# EAGLE library part 88E3015A2NNP1C000 (library circuit_tree)
IC
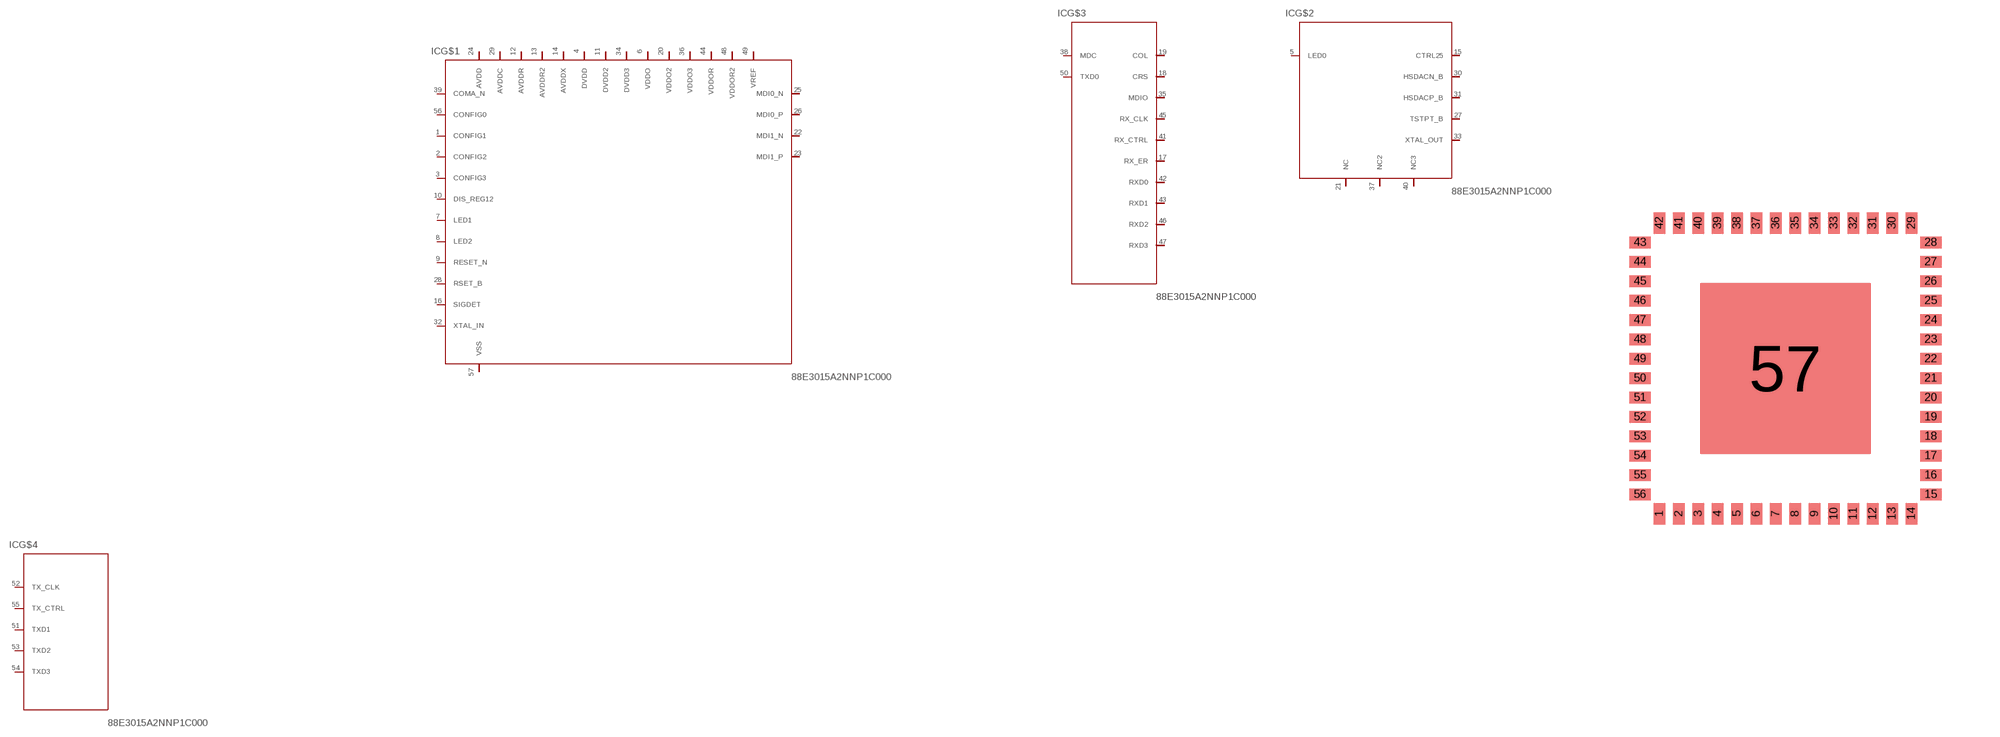
[diagram p1: symbol with the pads of 88E3015A2NNP1C000; footprint 88E3015A2NNP1C000]

Designator prefix IC; gates G$1=88E3015A2NNP1C000 G$2=88E3015A2NNP1C0002 G$3=88E3015A2NNP1C0003 G$4=88E3015A2NNP1C0004

## 88E3015A2NNP1C000  [88E3015A2NNP1C000]
1  G$1:CONFIG1  pas
2  G$1:CONFIG2  pas
3  G$1:CONFIG3  pas
4  G$1:DVDD  pas
5  G$2:LED0  pas
6  G$1:VDDO  pas
7  G$1:LED1  pas
8  G$1:LED2  pas
9  G$1:RESET_N  pas
10  G$1:DIS_REG12  pas
11  G$1:DVDD2  pas
12  G$1:AVDDR  pas
13  G$1:AVDDR2  pas
14  G$1:AVDDX  pas
15  G$2:CTRL25  pas
16  G$1:SIGDET  pas
17  G$3:RX_ER  pas
18  G$3:CRS  pas
19  G$3:COL  pas
20  G$1:VDDO2  pas
21  G$2:NC  pas
22  G$1:MDI1_N  pas
23  G$1:MDI1_P  pas
24  G$1:AVDD  pas
25  G$1:MDI0_N  pas
26  G$1:MDI0_P  pas
27  G$2:TSTPT_B  pas
28  G$1:RSET_B  pas
29  G$1:AVDDC  pas
30  G$2:HSDACN_B  pas
31  G$2:HSDACP_B  pas
32  G$1:XTAL_IN  pas
33  G$2:XTAL_OUT  pas
34  G$1:DVDD3  pas
35  G$3:MDIO  pas
36  G$1:VDDO3  pas
37  G$2:NC2  pas
38  G$3:MDC  pas
39  G$1:COMA_N  pas
40  G$2:NC3  pas
41  G$3:RX_CTRL  pas
42  G$3:RXD0  pas
43  G$3:RXD1  pas
44  G$1:VDDOR  pas
45  G$3:RX_CLK  pas
46  G$3:RXD2  pas
47  G$3:RXD3  pas
48  G$1:VDDOR2  pas
49  G$1:VREF  pas
50  G$3:TXD0  pas
51  G$4:TXD1  pas
52  G$4:TX_CLK  pas
53  G$4:TXD2  pas
54  G$4:TXD3  pas
55  G$4:TX_CTRL  pas
56  G$1:CONFIG0  pas
57  G$1:VSS  pas

## Footprint 88E3015A2NNP1C000 (pad centres in mm)
smd 0.3 x 0.55: 1 0,0; 2 0.5,0; 3 1,0; 4 1.5,0; 5 2,0; 6 2.5,0; 7 3,0; 8 3.5,0; 9 4,0; 10 4.5,0; 11 5,0; 12 5.5,0; 13 6,0; 14 6.5,0; 29 6.5,7.5; 30 6,7.5; 31 5.5,7.5; 32 5,7.5; 33 4.5,7.5; 34 4,7.5; 35 3.5,7.5; 36 3,7.5; 37 2.5,7.5; 38 2,7.5; 39 1.5,7.5; 40 1,7.5; 41 0.5,7.5; 42 0,7.5
smd 0.55 x 0.3: 15 7,0.5; 16 7,1; 17 7,1.5; 18 7,2; 19 7,2.5; 20 7,3; 21 7,3.5; 22 7,4; 23 7,4.5; 24 7,5; 25 7,5.5; 26 7,6; 27 7,6.5; 28 7,7; 43 -0.5,7; 44 -0.5,6.5; 45 -0.5,6; 46 -0.5,5.5; 47 -0.5,5; 48 -0.5,4.5; 49 -0.5,4; 50 -0.5,3.5; 51 -0.5,3; 52 -0.5,2.5; 53 -0.5,2; 54 -0.5,1.5; 55 -0.5,1; 56 -0.5,0.5
smd 4.4 x 4.4: 57 3.25,3.75